# EAGLE library part HTSS-103-XX-XX-D (library micro-metal-dc-motor)
HIGH TEMP TOP SHROUD TERMINAL STRIP.
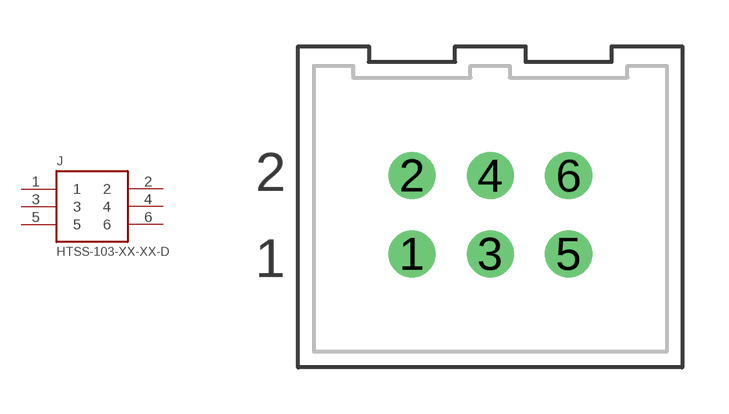
[diagram p1: symbol with the pads of HTSS-103-XX-XX-D; footprint HTSS-103-XX-XX-D]

Designator prefix J

## HTSS-103-XX-XX-D  [HTSS-103-XX-XX-D]
1  1
2  2
3  3
4  4
5  5
6  6

## Footprint HTSS-103-XX-XX-D (pad centres in mm)
HIGH TEMP TOP SHROUD TERMINAL STRIP.
drill 1.016 pad 1.524: 1 -2.54,-1.27; 2 -2.54,1.27; 3 0,-1.27; 4 0,1.27; 5 2.54,-1.27; 6 2.54,1.27